# Altium schematic symbol library USB_Micro.SchLib: 1 symbol
Pins are listed as number, name and electrical type; pins without a type are passive.

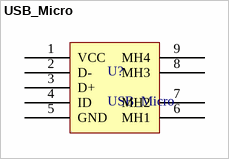
[diagram p0: symbol USB_Micro]

## USB_Micro
designator U?
USB_Micro_5S_B
pins: 1 VCC (power), 2 D-, 3 D+, 4 ID, 5 GND (power), 6 MH1, 7 MH2, 8 MH3, 9 MH4